# EAGLE library part ESP-11 (library Co.-ESP)
ESP8266 Wifi Module ESP-11
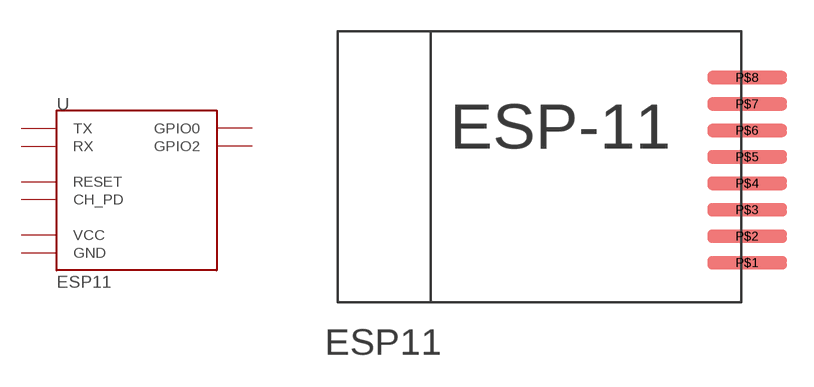
[diagram p5: symbol with the pads of ESP-11; footprint ESP-11]

Designator prefix -

## ESP-11 (DIMENSIONS: 17.3 x 12.1 mm; PINS: 8; PITCH: 0.05" / 1.27 mm)  [ESP-11]
P$1  GND
P$2  CH_PD
P$3  RESET
P$4  RX
P$5  TX
P$6  GPIO0
P$7  GPIO2
P$8  VCC

## Footprint ESP-11 (pad centres in mm)
ESP8266 Module ESP-11
smd 3.81 x 0.635: P$1 10.113,-4.445; P$2 10.113,-3.175; P$3 10.113,-1.905; P$4 10.113,-0.635; P$5 10.113,0.635; P$6 10.113,1.905; P$7 10.113,3.175; P$8 10.113,4.445